# Altium integrated library IRF3205SPBF.IntLib: 1 symbol
Pins are listed as number, name and electrical type; pins without a type are passive.

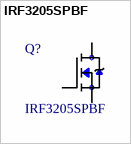
[diagram p0: symbol IRF3205SPBF]

## IRF3205SPBF
designator Q?
N-Channel 55V 110A _Tc_ 200W _Tc_ Surface Mount D2PAK; MF: Infineon Technologies; Price: None; MP: IRF3205SPBF; SnapEDA_Link: https://www.snapeda.com/parts/IRF3205SPBF/Infineon%20Technologies/view-part/576468/?ref=snap; Availability: Unavailable; Package: D2PAK Infineon; Value: *
footprint *TRANS_IRF3205SPBF
pins: 1 G, 2 D, 3 S